# Altium schematic symbol library KGF15AR71E104JT.SchLib: 1 symbol
Pins are listed as number, name and electrical type; pins without a type are passive.

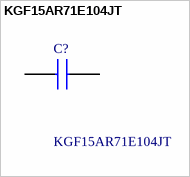
[diagram p0: symbol KGF15AR71E104JT]

## KGF15AR71E104JT
designator C?
Multilayer Ceramic Capacitors MLCC - SMD/SMT .1UF 25V 5% 0603; Manufacturer_Name: Kyocera AVX; Geometry.Height: 0.9mm; Mouser Part Number: 581-KGF15AR71E104JT; Mouser Price/Stock: https://www.mouser.co.uk/ProductDetail/KYOCERA-AVX/KGF15AR71E104JT?qs=Jm2GQyTW%2FbiKAdZfK6H4BA%3D%3D; Manufacturer_Part_Number: KGF15AR71E104JT; Datasheet Link: https://spicat.kyocera-avx.com/product/KGF15AR71E104JT
footprint CAPC1608X90N
pins: 1, 2